# Altium schematic symbol library B01FA08B.Schlib: 1 symbol
Pins are listed as number, name and electrical type; pins without a type are passive.

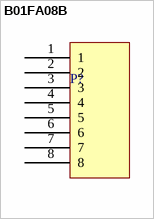
[diagram p0: symbol B01FA08B]

## B01FA08B
designator P?
8 Pin Battery female connector
pins: 1, 2, 3, 4, 5, 6, 7, 8